# Altium footprint library Parts_PCB_layout.PcbLib: 17 footprints (part 1 of 2)
Each footprint in its own frame and in the unit in brackets; x right, y up, seen from the top. Pads: shape width x height; smd on the part's side, far side on the other; paste and mask are expansions set on the pad; w line width, h text height; cw(c..) or ccw(c..) is an arc to the next point about the centre after c.
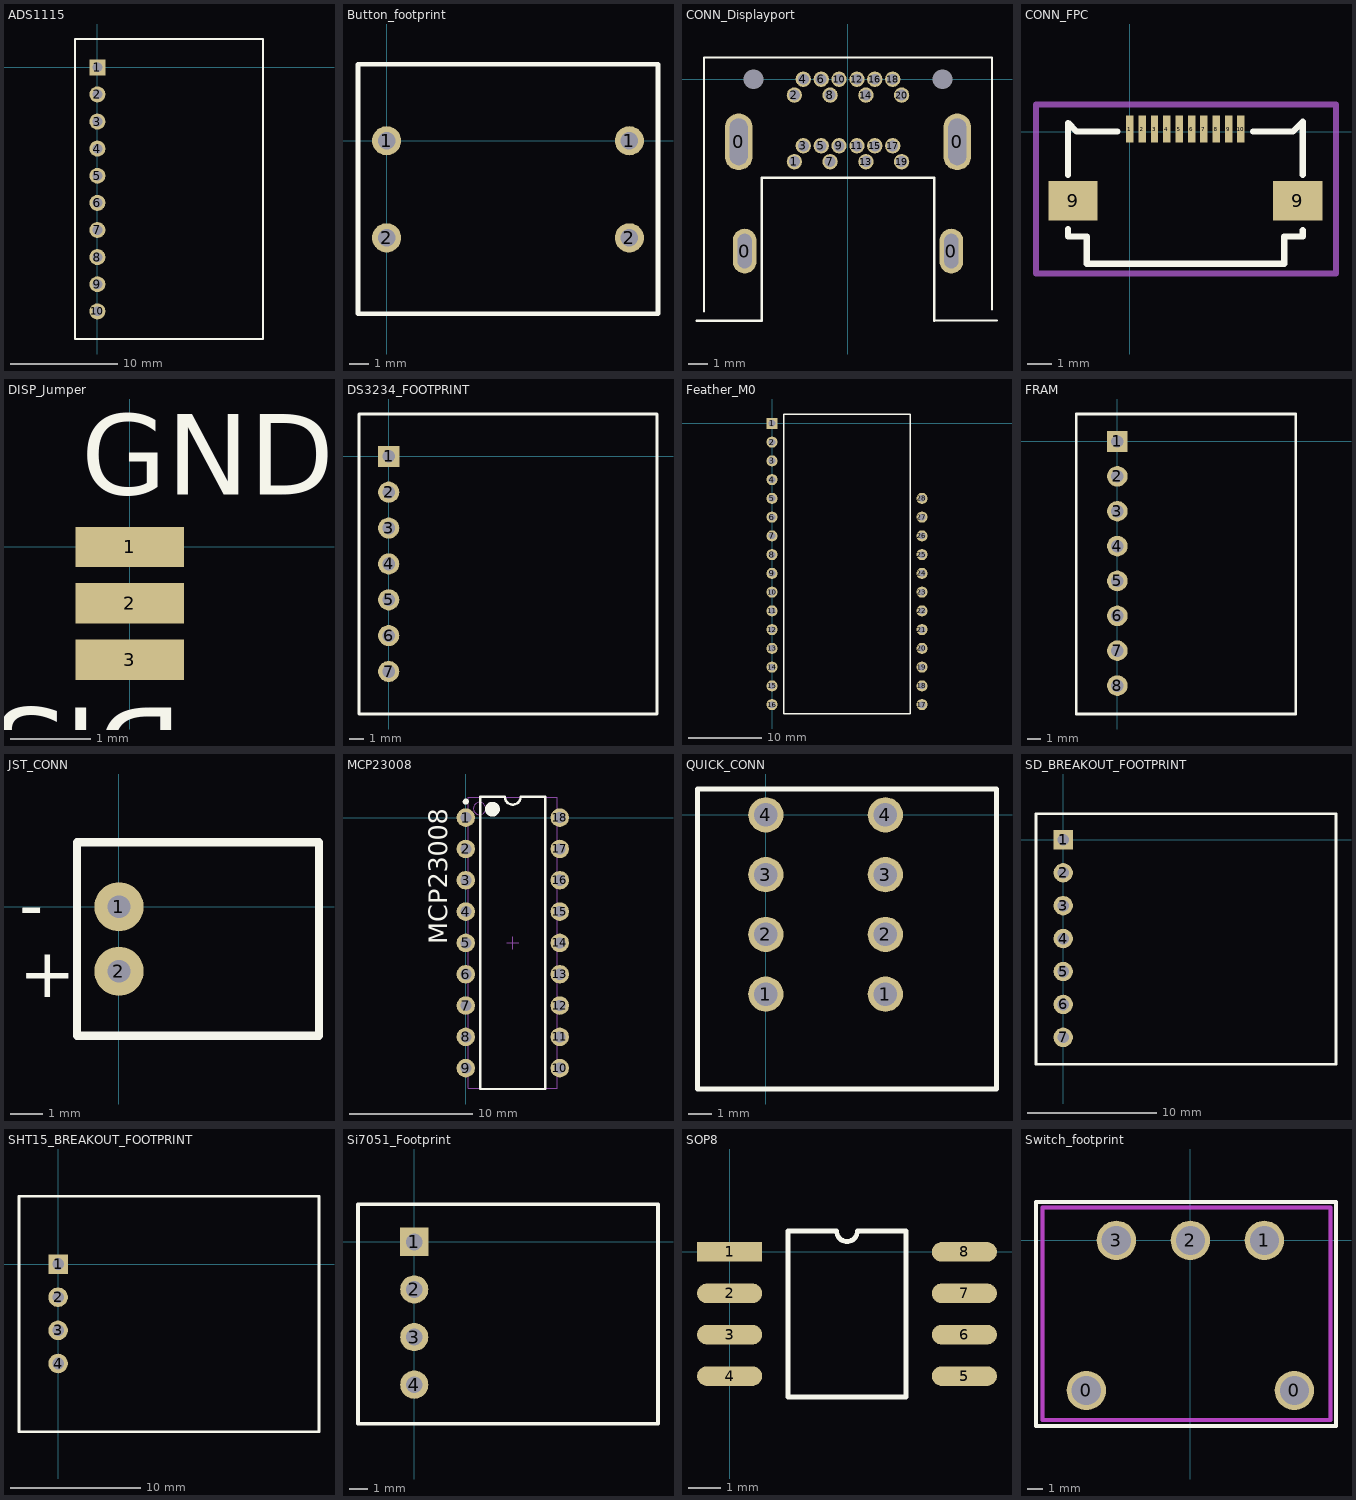
[diagram p0: the footprints below, top view; thin cyan lines are the x and y axes]

## ADS1115 [mm]
pads (10):
  rect 1.5x1.5 hole 0.9: 1(0,0)
  round 1.5 hole 0.9: 2(0,-2.54) 3(0,-5.08) 4(0,-7.62) 5(0,-10.16) 6(0,-12.7) 7(0,-15.24) 8(0,-17.78) 9(0,-20.32) 10(0,-22.86)
Top Overlay:
  lines w0.2: -2.1,-25.45 -2.1,2.65 9.415,2.65 15.5,2.65 15.5,-25.45 -2.1,-25.45

## Button_footprint [mil]
pads (4):
  round 60 hole 35.43: 1(0,0) 1(500,0) 2(0,-200) 2(500,-200)
Top Overlay:
  lines w10: -59.06,-356.3 559.06,-356.3 559.06,157.48 -59.06,157.48 -59.06,-356.3

## CONN_Displayport [mm]
pads (26):
  oval 1.4x2.85 hole 0.9 slot 2.35 at 90 deg: 0(-5.5,-3.15) 0(5.5,-3.15)
  oval 1.2x2.25 hole 0.7 slot 1.74 at 90 deg: 0(-5.2,-8.65) 0(5.2,-8.65)
  round 0.77 hole 0.55: 1(-2.7,-4.15) 2(-2.7,-0.8) 3(-2.25,-3.35) 4(-2.25,0) 5(-1.35,-3.35) 6(-1.35,0) 7(-0.9,-4.15) 8(-0.9,-0.8) 9(-0.45,-3.35) 10(-0.45,0) 11(0.45,-3.35) 12(0.45,0) 13(0.9,-4.15) 14(0.9,-0.8) 15(1.35,-3.35) 16(1.35,0) 17(2.25,-3.35) 18(2.25,0) 19(2.7,-4.15) 20(2.7,-0.8)
  round 0 hole 1 unplated: 21(-4.75,0) 21(4.75,0)
Top Overlay:
  lines w0.1: -7.25,-11.7 -7.25,1.1 7.25,1.1 7.25,-11.6 ; 4.35,-12.15 7.5,-12.15
  lines w0.127: -7.6,-12.15 -4.35,-12.15 -4.35,-4.95 4.35,-4.95 4.35,-12.15
Bottom Overlay:
  lines w0.1: -7.25,-11.7 -7.25,1.1 7.25,1.1 7.25,-11.6 ; 4.35,-12.15 7.5,-12.15
  lines w0.127: -7.6,-12.15 -4.35,-12.15 -4.35,-4.95 4.35,-4.95 4.35,-12.15

## CONN_FPC [mm]
pads (12):
  rect 0.3x1.1 smd: 1(0,0.1) 2(0.5,0.1) 3(1,0.1) 4(1.5,0.1) 5(2,0.1) 6(2.5,0.1) 7(3,0.1) 8(3.5,0.1) 9(4,0.1) 10(4.5,0.1)
  rect 2x1.6 smd: 9(-2.3,-2.8) 9(6.8,-2.8)
Top Overlay:
  lines w0.254: -2.5,-3.95 -2.5,-4.25 -1.75,-4.25 -1.75,-5.35 6.25,-5.35 6.25,-4.25 7,-4.25 7,-4 ; -2.5,-1.75 -2.5,0.35 -2.15,0 -0.5,0 ; 5,0 6.6,0 7,0.4 7,-1.75
Mechanical 13:
  lines w0.254: -3.8,-5.75 8.35,-5.75 8.35,1.1 -3.8,1.1 -3.8,-5.75
3D body: height 2, standoff 0, extent -2.5,-4.375 7,-0.125

## DISP_Jumper [mm]
pads (3):
  rect 1.35x0.5 smd: 1(0,0) 2(0,-0.7) 3(0,-1.4)
Top Overlay:
  text "GND" at -0.6,0.65 h1
  text "DISP_EN" at 0.65,-2 h1

## DS3234_FOOTPRINT [mm]
pads (7):
  rect 1.5x1.5 hole 0.9: 1(0,0)
  round 1.5 hole 0.9: 2(0,-2.54) 3(0,-5.08) 4(0,-7.62) 5(0,-10.16) 6(0,-12.7) 7(0,-15.24)
Top Overlay:
  lines w0.2: -2.1,-18.25 19,-18.25 19,3 9.065,3 -2.1,3 -2.1,-18.25
3D body: height 7.4, standoff 0, extent -2.1,-18.25 19,3.05

## Feather_M0 [mm]
pads (28):
  rect 1.5x1.5 hole 0.9: 1(0,0)
  round 1.5 hole 0.9: 2(0,-2.54) 3(0,-5.08) 4(0,-7.62) 5(0,-10.16) 6(0,-12.7) 7(0,-15.24) 8(0,-17.78) 9(0,-20.32) 10(0,-22.86) 11(0,-25.4) 12(0,-27.94) 13(0,-30.48) 14(0,-33.02) 15(0,-35.56) 16(0,-38.1) 17(20.32,-38.1) 18(20.32,-35.56) 19(20.32,-33.02) 20(20.32,-30.48) 21(20.32,-27.94) 22(20.32,-25.4) 23(20.32,-22.86) 24(20.32,-20.32) 25(20.32,-17.78) 26(20.32,-15.24) 27(20.32,-12.7) 28(20.32,-10.16)
Top Overlay:
  lines w0.2: 1.585,-39.37 18.735,-39.37 18.735,1.27 10.795,1.27 1.585,1.27 1.585,-39.37
3D body: height 7, standoff 2.5, extent -1.1,-44.1 21.35,6

## FRAM [mm]
pads (8):
  rect 1.5x1.5 hole 0.9: 1(0,0)
  round 1.5 hole 0.9: 2(0,-2.54) 3(0,-5.08) 4(0,-7.62) 5(0,-10.16) 6(0,-12.7) 7(0,-15.24) 8(0,-17.78)
Top Overlay:
  lines w0.2: -3,-19.85 13,-19.85 13,2 8.765,2 -3,2 -3,-19.85
3D body: height 6, standoff 2.5, extent -3,-19.85 13,2

## JST_CONN [mil]
pads (2):
  round 60 hole 27.56: 1(0,0) 2(0,-78.74)
Top Overlay:
  lines w10: -51.18,-157.48 244.09,-157.48 244.09,0 244.09,78.74 -51.18,78.74 -51.18,-157.48
  text "-" at -122.05,-27.56 h60
  text "+" at -122.05,-110.24 h60
3D body: height 196.85, standoff 0, extent -49.21,-157.48 242.13,78.74

## MCP23008 [mm]
pads (18):
  round 1.5 hole 0.9: 1(0,0) 2(0,-2.54) 3(0,-5.08) 4(0,-7.62) 5(0,-10.16) 6(0,-12.7) 7(0,-15.24) 8(0,-17.78) 9(0,-20.32) 10(7.62,-20.32) 11(7.62,-17.78) 12(7.62,-15.24) 13(7.62,-12.7) 14(7.62,-10.16) 15(7.62,-7.62) 16(7.62,-5.08) 17(7.62,-2.54) 18(7.62,0)
Top Overlay:
  circle w0.25: c0,1.3 r0.125
  circle w0.6: c2.16,0.69 r0.3
  lines w0.2: 6.372,-22.01 1.491,-22.01 1.16,-22.01 1.16,1.69 3.175,1.69 ccw(c3.81,1.69) 4.445,1.69 6.46,1.69 6.46,-22.01
  text "MCP23008" at -1.524,-10.287 h1.52
Mechanical 13:
  circle w0.1: c1.11,0.74 r0.5
  lines w0.1: 0.21,-21.96 7.41,-21.96 7.41,1.64 0.21,1.64 0.21,-21.96
Mechanical 15:
  lines w0.1: 3.31,-10.16 4.31,-10.16 ; 3.81,-10.66 3.81,-9.66
3D body: height 5.08, standoff 0, extent 0.21,-21.96 7.41,1.64

## QUICK_CONN [mm]
pads (8):
  round 1.5 hole 1: 1(0,-7.62) 1(5.08,-7.62) 2(0,-5.08) 2(5.08,-5.08) 3(0,-2.54) 3(5.08,-2.54) 4(0,0) 4(5.08,0)
Top Overlay:
  lines w0.2: -2.9,-11.65 9.8,-11.65 9.8,1.1 -2.9,1.1 -2.9,-11.65
3D body: height 13.8, standoff 0, extent -2.9,-11.65 9.8,1.1

## SD_BREAKOUT_FOOTPRINT [mm]
pads (7):
  rect 1.5x1.5 hole 0.9: 1(0,0)
  round 1.5 hole 0.9: 2(0,-2.54) 3(0,-5.08) 4(0,-7.62) 5(0,-10.16) 6(0,-12.7) 7(0,-15.24)
Top Overlay:
  lines w0.2: -2.1,-17.3 21.05,-17.3 21.05,2 8.065,2 -2.1,2 -2.1,-17.3
3D body: height 6.1, standoff 1, extent -2.1,-17.35 21.05,2

## SHT15_BREAKOUT_FOOTPRINT [mm]
pads (4):
  rect 1.5x1.5 hole 0.9: 1(0,0)
  round 1.5 hole 0.9: 2(0,-2.54) 3(0,-5.08) 4(0,-7.62)
Top Overlay:
  lines w0.2: -3,-12.85 20,-12.85 20,5.2 4.565,5.2 -3,5.2 -3,-12.85
3D body: height 5.7, standoff 2.4, extent -3,-12.9 20,5.2

## Si7051_Footprint [mm]
pads (4):
  rect 1.5x1.5 hole 0.9: 1(0,0)
  round 1.5 hole 0.9: 2(0,-2.54) 3(0,-5.08) 4(0,-7.62)
Top Overlay:
  lines w0.2: -3,-9.7 -3,2 8.765,2 13,2 13,-9.7 -3,-9.7
3D body: height 5.7, standoff 2.4, extent -3,-9.7 13,2

## SOP8 [mm]
pads (8):
  rect 2x0.6 smd: 1(0,0)
  oval 2x0.6 smd: 2(0,-1.27) 3(0,-2.54) 4(0,-3.81) 5(7.2,-3.81) 6(7.2,-2.54) 7(7.2,-1.27) 8(7.2,0)
Top Overlay:
  lines w0.15: 1.785,-4.445 1.785,0.635 3.283,0.635 ccw(c3.6,0.635) 3.918,0.635 5.415,0.635 5.415,-4.445 1.785,-4.445
3D body: height 1.75, standoff 0, extent 1.8,-4.45 5.4,0.6

## Switch_footprint [mm]
pads (5):
  round 2.5 hole 1.85: 0(-6.605,-9.53) 0(6.605,-9.53) 1(4.7,0) 2(0,0) 3(-4.7,0)
Top Overlay:
  lines w0.254: -9.8,-11.8 9.25,-11.8 9.25,2.45 -9.8,2.45 -9.8,-11.8
Mechanical 1 keep-out:
  lines w0.254: -9.4,-11.4 8.9,-11.4 8.9,2.1 -9.4,2.1 -9.4,1.35 -9.4,-11.4